# EAGLE library part ER-TFT (library we-opto)
ER TFT Display TFT043-3 - 4.3" 480x272 (LED 15mA @ 25.0V) TFT050-3 - 5.0" 800x480 (LED @ 40mA @ 19.2V) TFT070-4 - 7.0" 800x480 (LED @ 40mA @ 20.4V)
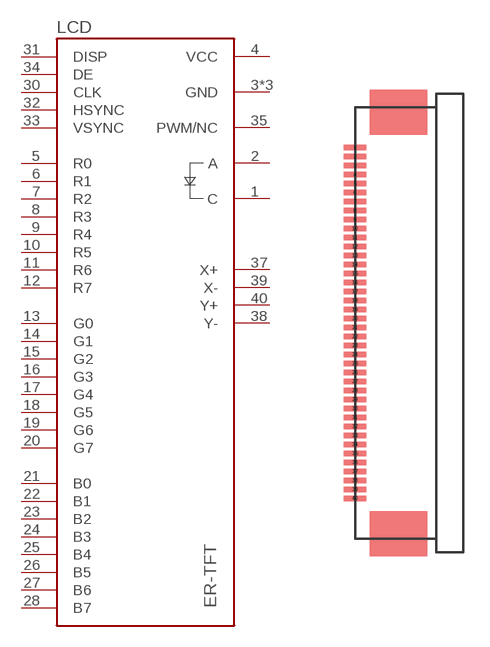
[diagram p1: symbol with the pads of FPC40; footprint FPC40]

Designator prefix LCD

## ER-TFT043-3  [FPC40]
1  C  pwr
2  A  pwr
3  GND  pwr
4  VCC  pwr
5  R0  in
6  R1  in
7  R2  in
8  R3  in
9  R4  in
10  R5  in
11  R6  in
12  R7  in
13  G0  in
14  G1  in
15  G2  in
16  G3  in
17  G4  in
18  G5  in
19  G6  in
20  G7  in
21  B0  in
22  B1  in
23  B2  in
24  B3  in
25  B4  in
26  B5  in
27  B6  in
28  B7  in
29  GND  pwr
30  CLK  in
31  DISP  in
32  HSYNC  in
33  VSYNC  in
34  DE  in
35  PWM/NC
36  GND  pwr
37  X+  pas
38  Y-  pas
39  X-  pas
40  Y+  pas

## ER-TFT050-3  [FPC40]
Pads as for FPC40

## ER-TFT070-4  [FPC40]
Pads as for FPC40

## Footprint FPC40 (pad centres in mm)
40 Pins 0.5mm FCI 62684-402100AHLF -> top contact FCI 62684-401100AHLF -> bottom contact
smd 1.27 x 0.279: 1 0,9.75; 2 0,9.25; 3 0,8.75; 4 0,8.25; 5 0,7.75; 6 0,7.25; 7 0,6.75; 8 0,6.25; 9 0,5.75; 10 0,5.25; 11 0,4.75; 12 0,4.25; 13 0,3.75; 14 0,3.25; 15 0,2.75; 16 0,2.25; 17 0,1.75; 18 0,1.25; 19 0,0.75; 20 0,0.25; 21 0,-0.25; 22 0,-0.75; 23 0,-1.25; 24 0,-1.75; 25 0,-2.25; 26 0,-2.75; 27 0,-3.25; 28 0,-3.75; 29 0,-4.25; 30 0,-4.75; 31 0,-5.25; 32 0,-5.75; 33 0,-6.25; 34 0,-6.75; 35 0,-7.25; 36 0,-7.75; 37 0,-8.25; 38 0,-8.75; 39 0,-9.25; 40 0,-9.75